# Altium footprint library RES-2512.PcbLib: 1 footprints
Each footprint in its own frame and in the unit in brackets; x right, y up, seen from the top. Pads: shape width x height; smd on the part's side, far side on the other; paste and mask are expansions set on the pad; w line width, h text height; cw(c..) or ccw(c..) is an arc to the next point about the centre after c.
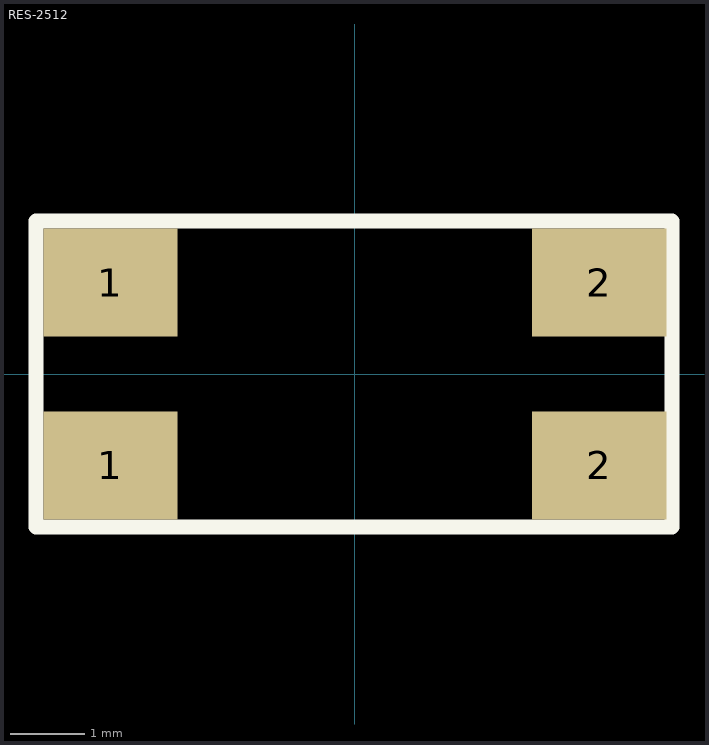
[diagram p0: the footprint, top view; thin cyan lines are the x and y axes]

## RES-2512 [mm]
height 0.55
pads (4):
  rect 1.8x1.45 smd: 1(-3.275,-1.225) 1(-3.275,1.225) 2(3.275,-1.225) 2(3.275,1.225)
Top Overlay:
  lines w0.2: 4.25,-2.05 -4.275,-2.05 -4.275,2.05 4.25,2.05 4.25,-2
Top Assembly:
  lines w0.1: -4.275,-2.05 -4.275,2.05 4.25,2.05 4.25,-2.05 -4.275,-2.05
  text "'.Designator'" at 0,0 h0.7
3D body "User Library-R_2512.STEP": height 0.6, standoff 0, extent -3.2,-1.6 3.2,1.6